# EAGLE library part MPU-9250 (library motion_game)
MPU-9250 9-axis IMU
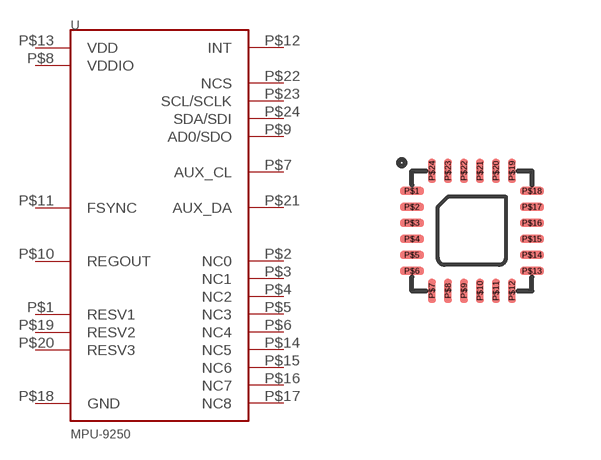
[diagram p0: symbol with the pads of QFN3X3MM; footprint QFN3X3MM]

Designator prefix -

## MPU-9250  [QFN3X3MM]
P$1  RESV1
P$2  NC0
P$3  NC1
P$4  NC2
P$5  NC3
P$6  NC4
P$7  AUX_CL
P$8  VDDIO
P$9  AD0/SDO
P$10  REGOUT
P$11  FSYNC
P$12  INT
P$13  VDD
P$14  NC5
P$15  NC6
P$16  NC7
P$17  NC8
P$18  GND
P$19  RESV2
P$20  RESV3
P$21  AUX_DA
P$22  NCS
P$23  SCL/SCLK
P$24  SDA/SDI

## Footprint QFN3X3MM (pad centres in mm)
smd 0.6 x 0.2: P$1 -1.5,1; P$2 -1.5,0.6; P$3 -1.5,0.2; P$4 -1.5,-0.2; P$5 -1.5,-0.6; P$6 -1.5,-1; P$13 1.5,-1; P$14 1.5,-0.6; P$15 1.5,-0.2; P$16 1.5,0.2; P$17 1.5,0.6; P$18 1.5,1
smd 0.2 x 0.6: P$7 -1,-1.5; P$8 -0.6,-1.5; P$9 -0.2,-1.5; P$10 0.2,-1.5; P$11 0.6,-1.5; P$12 1,-1.5; P$19 1,1.5; P$20 0.6,1.5; P$21 0.2,1.5; P$22 -0.2,1.5; P$23 -0.6,1.5; P$24 -1,1.5